# Altium footprint library FIT2017_UnoSheild.PcbLib: 2 footprints
Each footprint in its own frame and in the unit in brackets; x right, y up, seen from the top. Pads: shape width x height; smd on the part's side, far side on the other; paste and mask are expansions set on the pad; w line width, h text height; cw(c..) or ccw(c..) is an arc to the next point about the centre after c.
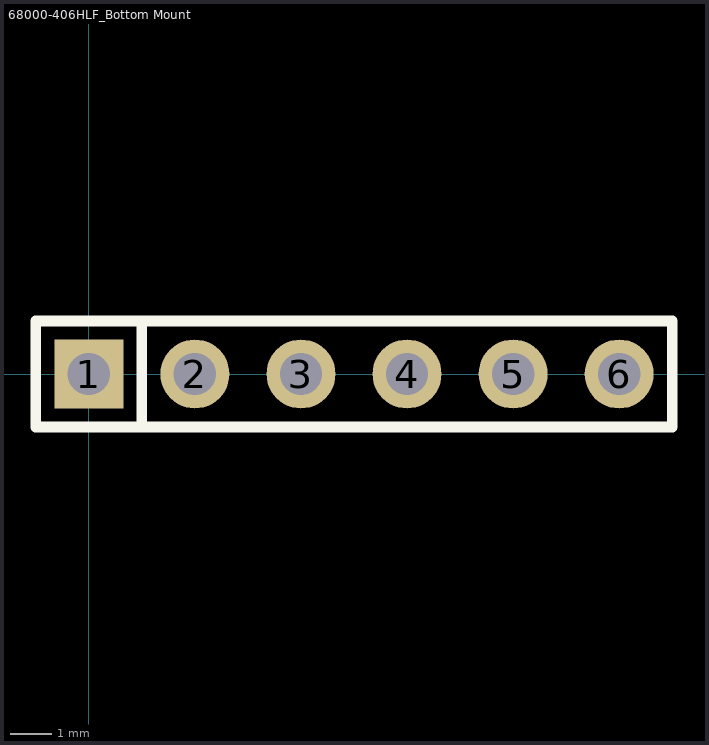
[diagram p0: the footprints below, top view; thin cyan lines are the x and y axes]

## 68000-406HLF_Bottom Mount [mil] "6-pin Header \"Bottom Mounted\""
pads (6):
  rect 65x65 hole 40: 1(0,0)
  round 65 hole 40: 2(100,0) 3(200,0) 4(300,0) 5(400,0) 6(500,0)
Top Overlay:
  lines w10: 50,-50 50,50 ; -50,-50 550,-50 550,50 -50,50 -50,-50
3D body "User Library-68000-x06.step": height 322, standoff -103, extent -50,-47.5 550,47.5

## PCBComponent_1 [mil]